# Altium schematic symbol library CGA6P1X7S1A476M250AC.SchLib: 1 symbol
Pins are listed as number, name and electrical type; pins without a type are passive.

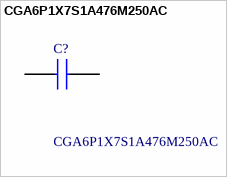
[diagram p0: symbol CGA6P1X7S1A476M250AC]

## CGA6P1X7S1A476M250AC
designator C?
Multilayer Ceramic Capacitors MLCC - SMD/SMT 1210 10VDC 47uF 20% X7S AEC-Q200; Manufacturer_Name: TDK; Geometry.Height: 2.8mm; Mouser Part Number: 810-CGA6P1X7S1A47625; Mouser Price/Stock: https://www.mouser.co.uk/ProductDetail/TDK/CGA6P1X7S1A476M250AC?qs=P1JMDcb91o6scf2jD5%2F2eg%3D%3D; Manufacturer_Part_Number: CGA6P1X7S1A476M250AC; Datasheet Link: https://product.tdk.com/system/files/dam/doc/product/capacitor/ceramic/mlcc/catalog/mlcc_automotive_general_en.pdf
footprint CAPC3225X280N
pins: 1, 2